# EAGLE library part 74HCT11PW,118 (library 74HCT11PW_118)
74HC(T)11 - Triple 3-input AND gate@en-us Source: Datasheet <https://assets.nexperia.com/documents/data-sheet/74HC_HCT11.pdf>
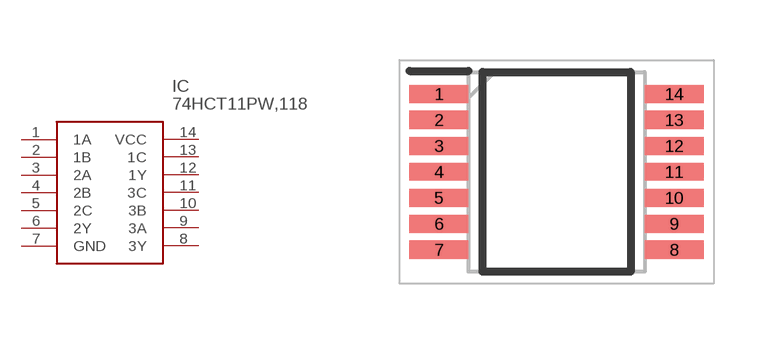
[diagram p0: symbol with the pads of SOP65P640X110-14N; footprint SOP65P640X110-14N]

Designator prefix IC

## 74HCT11PW,118 (Description: 74HC(T)11 - Triple 3-input AND gate@en-us; Height: 1.1mm; Manufacturer_Name: Nexperia; Manufacturer_Part_Number: 74HCT11PW,118)  [SOP65P640X110-14N]
1  1A
2  1B
3  2A
4  2B
5  2C
6  2Y
7  GND
8  3Y
9  3A
10  3B
11  3C
12  1Y
13  1C
14  VCC

## Footprint SOP65P640X110-14N (pad centres in mm)
SOT402-1
smd 1.475 x 0.45: 1 -2.938,1.95; 2 -2.938,1.3; 3 -2.938,0.65; 4 -2.938,0; 5 -2.938,-0.65; 6 -2.938,-1.3; 7 -2.938,-1.95; 8 2.938,-1.95; 9 2.938,-1.3; 10 2.938,-0.65; 11 2.938,0; 12 2.938,0.65; 13 2.938,1.3; 14 2.938,1.95